# Altium footprint library PHDR-2X5-TH-M.PcbLib: 1 footprints
Each footprint in its own frame and in the unit in brackets; x right, y up, seen from the top. Pads: shape width x height; smd on the part's side, far side on the other; paste and mask are expansions set on the pad; w line width, h text height; cw(c..) or ccw(c..) is an arc to the next point about the centre after c.
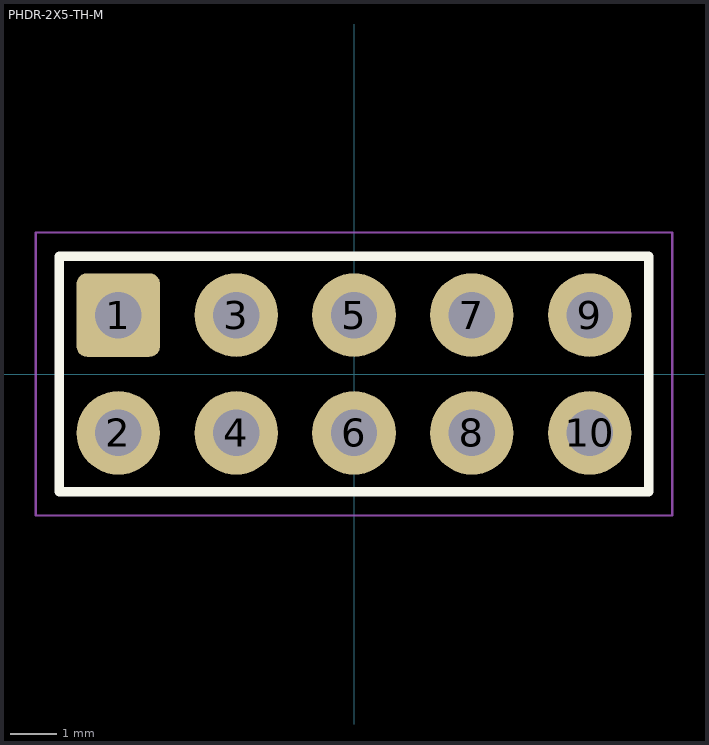
[diagram p0: the footprint, top view; thin cyan lines are the x and y axes]

## PHDR-2X5-TH-M [mm] "PinHeader 2x5 TH Pitch 2.54mm"
height 9.5
pads (10):
  rrect25% 1.8x1.8 hole 1: 1(-5.08,1.27)
  round 1.8 hole 1: 2(-5.08,-1.27) 3(-2.54,1.27) 4(-2.54,-1.27) 5(0,1.27) 6(0,-1.27) 7(2.54,1.27) 8(2.54,-1.27) 9(5.08,1.27) 10(5.08,-1.27)
Top Overlay:
  lines w0.2: -6.35,-2.54 6.35,-2.54 6.35,2.54 -6.35,2.54 -6.35,0 -6.35,-2.54
Top Assembly:
  lines w0.1: -6.35,-2.54 -6.35,2.54 6.35,2.54 6.35,-2.54 -6.35,-2.54
Top Courtyard:
  lines w0.05: -6.858,-3.048 -6.858,3.048 6.858,3.048 6.858,-3.048 -6.858,-3.048
Top Designator:
  text ".Designator" at -7.498,-0.5 h1.5
3D body "Pin Header 2x5 TH Pitch 2.54mm.stp": height 9.5, standoff -3.2, extent -6.35,-2.54 6.35,2.54